# Altium footprint library L_0805_COMMON_MODE.PcbLib: 1 footprints
Each footprint in its own frame and in the unit in brackets; x right, y up, seen from the top. Pads: shape width x height; smd on the part's side, far side on the other; paste and mask are expansions set on the pad; w line width, h text height; cw(c..) or ccw(c..) is an arc to the next point about the centre after c.
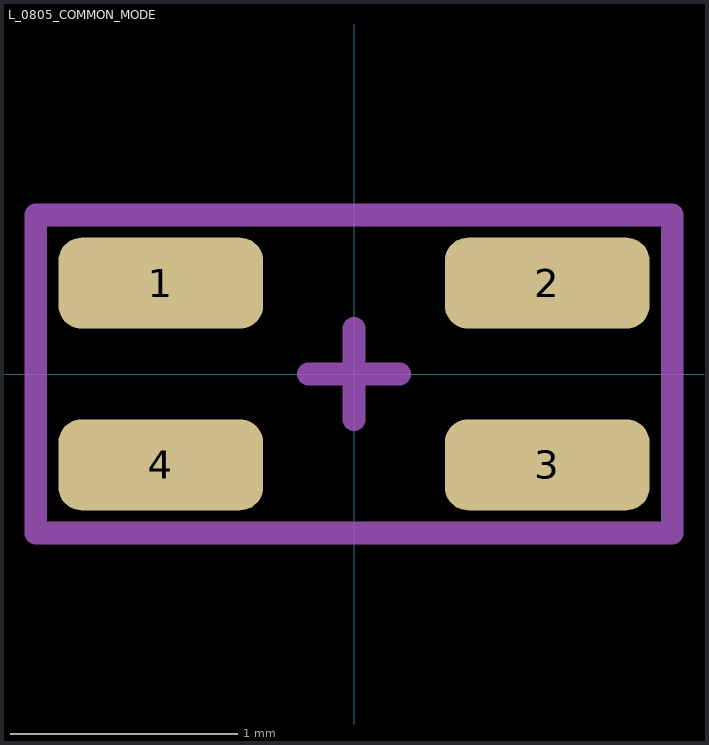
[diagram p0: the footprint, top view; thin cyan lines are the x and y axes]

## L_0805_COMMON_MODE [mm]
pads (4):
  rrect50% 0.9x0.4 smd mask+0.05: 1(-0.85,0.4) 2(0.85,0.4) 3(0.85,-0.4) 4(-0.85,-0.4)
Top Assembly:
  lines w0.1: -1.4,-0.7 -1.4,0.7 1.4,0.7 1.4,-0.7 -1.4,-0.7
  text "'.Designator'" at -0.775,0.358 h0.1
Top Courtyard:
  lines w0.1: -0.2,0 0.2,0 ; 0,-0.2 0,0 0,0.2 ; -1.4,-0.7 -1.4,0.7 1.4,0.7 1.4,-0.7 -1.4,-0.7
3D body "WE-CNSW_0805_CNSW (rev1).stp": height 1.2, standoff 0, extent -1,-0.6 1,0.6